# Altium footprint library KEYSTONE_5019.PcbLib: 1 footprints
Each footprint in its own frame and in the unit in brackets; x right, y up, seen from the top. Pads: shape width x height; smd on the part's side, far side on the other; paste and mask are expansions set on the pad; w line width, h text height; cw(c..) or ccw(c..) is an arc to the next point about the centre after c.
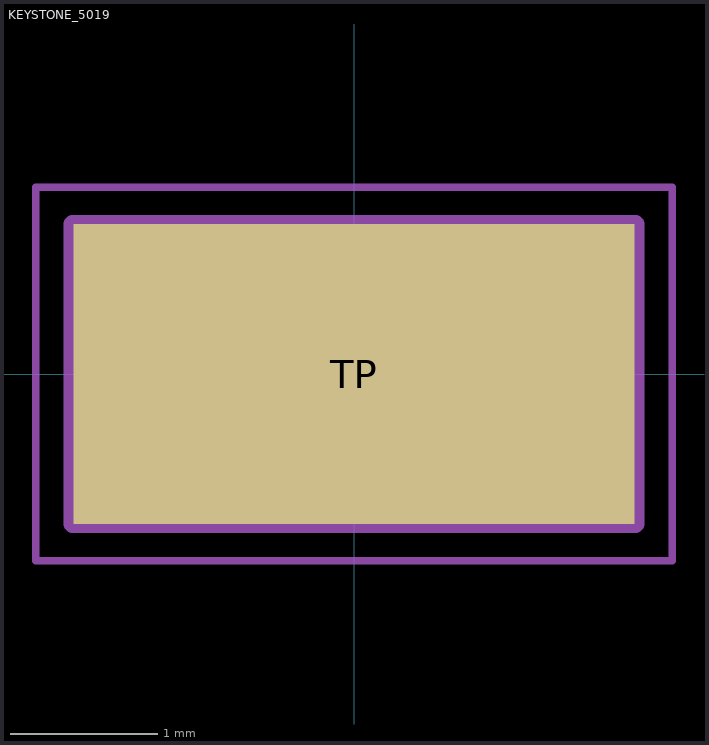
[diagram p0: the footprint, top view; thin cyan lines are the x and y axes]

## KEYSTONE_5019 [mm]
height 2.29
pads (1):
  rect 3.8x2.03 smd: TP(0,0)
Mechanical 13:
  lines w0.127: -1.905,-1.015 -1.905,1.015 1.905,1.015 1.905,-1.015 -1.905,-1.015
Mechanical 15:
  lines w0.05: -2.155,-1.265 -2.155,1.265 2.155,1.265 2.155,-1.265 -2.155,-1.265
3D body "step_temp.STEP": height 1.14, standoff -1.14, extent -1.905,-1.015 1.905,1.015